# Altium schematic symbol library BPW 34 SR-Z.SchLib: 1 symbol
Pins are listed as number, name and electrical type; pins without a type are passive.

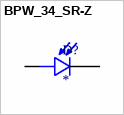
[diagram p0: symbol BPW_34_SR-Z]

## BPW_34_SR-Z
designator D?
Silicon PIN Photodiode; MF: {'manufacturer': u'OSRAM Opto'}; MP: BPW_34_SR-Z; Package: None; Price: None; Value: *; Availability: Unavailable
footprint DIO_BPW_34_SR-Z
pins: A, C